# EAGLE library part STCS1 (library Radicon)
STCS1 1.5 A max constant current LED driver Features ? Up to 40 V input voltage ? Less than 0.5 V voltage overhead ? Up to 1.5 A output current ? PWM dimming pin ? Shutdown pin ? LED disconnection diagnostic http://www.st.com/stonline/products/literature/ds/13415/stcs1.htm
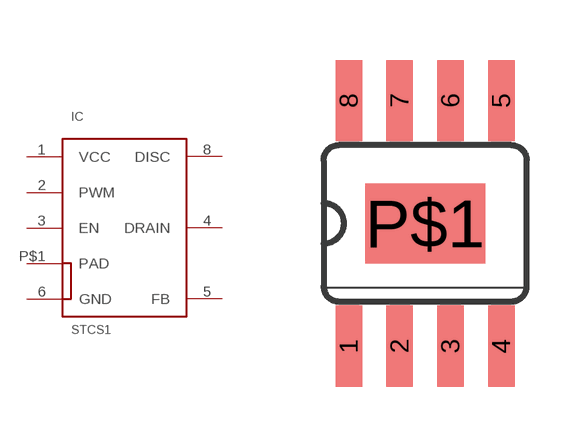
[diagram p14: symbol with the pads of SO08P; footprint SO08P]

Designator prefix IC

## STCS1  [SO08P]
1  VCC
2  PWM
3  EN
4  DRAIN
5  FB
6  GND
8  DISC
P$1  PAD

## Footprint SO08P (pad centres in mm)
smd 0.66 x 2.032: 1 -1.905,-3.073; 2 -0.635,-3.073; 3 0.635,-3.073; 4 1.905,-3.073; 5 1.905,3.073; 6 0.635,3.073; 7 -0.635,3.073; 8 -1.905,3.073
smd 3 x 2: P$1 0,0